# Altium integrated library TBA2-0513.IntLib: 2 symbols
Pins are listed as number, name and electrical type; pins without a type are passive.

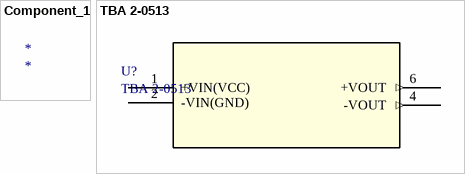
[diagram p0: symbols Component_1 to TBA 2-0513]

## Component_1
designator *

## TBA 2-0513
designator U?
No Description Available; Mfr_Name: Traco Power; Copyright: Copyright (C) 2022 Ultra Librarian. All rights reserved.; Manufacturer_Part_Number: TBA 2-0513; Digi-Key_Part_Number_1: 1951-3431-ND; RefDes: RefDes; Type: DEV
footprint TBA 2_SINGLE_TRP
pins: 1 +VIN(VCC) (power), 2 -VIN(GND) (power), 4 -VOUT (out), 6 +VOUT (out)